# EAGLE library part LSHIFT (library logik2)
Bidirectional LevelShifter pololu
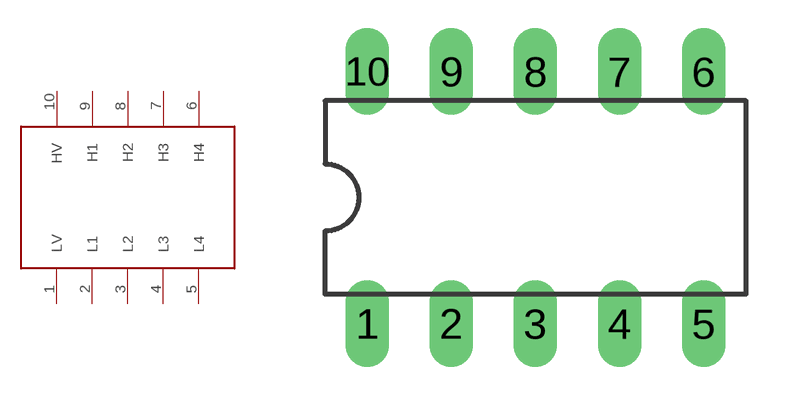
[diagram p2: symbol with the pads of DIL10; footprint DIL10]

Designator prefix -

## LSHIFT  [DIL10]
1  LV
2  L1
3  L2
4  L3
5  L4
6  H4
7  H3
8  H2
9  H1
10  HV

## Footprint DIL10 (pad centres in mm)
drill 0.813 long: 1 -3.81,-3.81; 2 -1.27,-3.81; 3 1.27,-3.81; 4 3.81,-3.81; 5 6.35,-3.81; 6 6.35,3.81; 7 3.81,3.81; 8 1.27,3.81
drill 0.8 long: 9 -1.27,3.81; 10 -3.81,3.81